# EAGLE library part 6180XX231421_618037231421 (library 618015233821_Eagle_WR-DSUB_rev20a)
WR-DSUB 10.30 mm Male Angled PCB Connector w. Hex Screw Kind Properties Quality Class:3 as per CECC 75 301-802 Gender:Male Type:Angled Insulator Material:PBT Insulator Flammability Rating:UL94 V-0 Color:Black Contact Material:Copper Alloy Contact Plating:Selective Gold Contact Type:Stamped Shielding Material:Steel Shielding Plating:Nickel General Information Operating Temperature:-55 up to +105 °C Compliance:RoHS Electrical Properties IR1:3 A Working Voltage:125 V (AC) Withstanding Voltage:1000 V (AC) Contact Resistance:30 mΩ <https://www.we-online.com/catalog/media/o60849v209%20Family_I-O_DSUB_PCB_Male_w-screw_6180xx231421_pf2.jpg> Details see: https://www.we-online.com/catalog/en/DSUB_MALE_ANGLED_PCB_CONNECTOR_W_HEX_SCREW_10_30MM_6180XX231421/ Updated by Yingchun, Shan 2020-01-08 2020 (C) Würth Elektronik
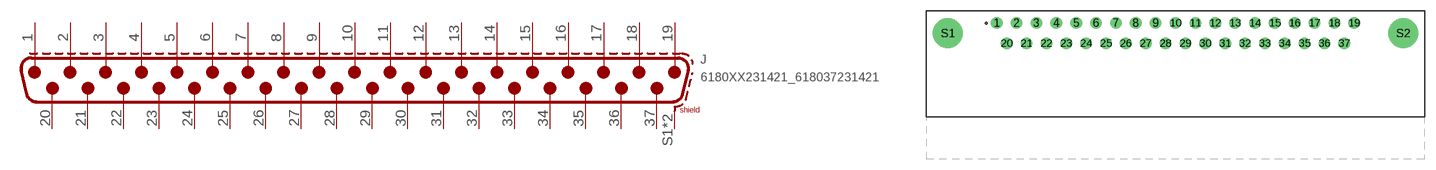
[diagram p45: symbol with the pads of 618037231421; footprint 618037231421]

Designator prefix J

## 6180XX231421_618037231421 (DATASHEET-URL: https://www.we-online.com/catalog/datasheet/618037231421.pdf; GENDER: Male; MATES-WITH: WR-DSUB Female PCB Connector /Female Solder Bucket /Female Terminal Housing; PART-NUMBER: 618037231421; PINS: 37; TYPE: Angled; WE-NUMBER: 618037231421)  [618037231421]
1  1
2  2
3  3
4  4
5  5
6  6
7  7
8  8
9  9
10  10
11  11
12  12
13  13
14  14
15  15
16  16
17  17
18  18
19  19
20  20
21  21
22  22
23  23
24  24
25  25
26  26
27  27
28  28
29  29
30  30
31  31
32  32
33  33
34  34
35  35
36  36
37  37
S1  SHIELD
S2  SHIELD

## Footprint 618037231421 (pad centres in mm)
WR-DSUB 10.3mm Male Angled PCB Connector with Hex Screw, 37 Pins
drill 1.09: 1 -24.93,8.715; 2 -22.16,8.715; 3 -19.39,8.715; 4 -16.62,8.715; 5 -13.85,8.715; 6 -11.08,8.715; 7 -8.31,8.715; 8 -5.54,8.715; 9 -2.77,8.715; 10 0,8.715; 11 2.77,8.715; 12 5.54,8.715; 13 8.31,8.715; 14 11.08,8.715; 15 13.85,8.715; 16 16.62,8.715; 17 19.39,8.715; 18 22.16,8.715; 19 24.93,8.715; 20 -23.545,5.875; 21 -20.775,5.875; 22 -18.005,5.875; 23 -15.235,5.875; 24 -12.465,5.875; 25 -9.695,5.875; 26 -6.925,5.875; 27 -4.155,5.875; 28 -1.385,5.875; 29 1.385,5.875; 30 4.155,5.875; 31 6.925,5.875; 32 9.695,5.875; 33 12.465,5.875; 34 15.235,5.875; 35 18.005,5.875; 36 20.775,5.875; 37 23.545,5.875
drill 3.2: S1 -31.75,7.295; S2 31.75,7.295